# EAGLE library part 2SC3381 (library synthdiy)
Dual low noise NPN TRANSISTOR
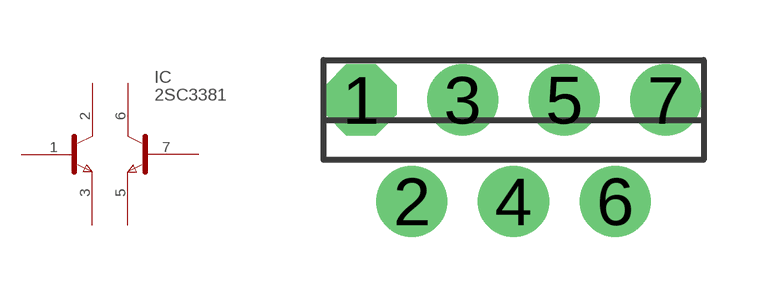
[diagram p9: symbol with the pads of XSIST_SIP7; footprint XSIST_SIP7]

Designator prefix IC

## 2SC3381  [XSIST_SIP7]
1  B1  pas
2  C1  pas
3  E1  pas
5  E2  pas
6  C2  pas
7  B2  pas

## Footprint XSIST_SIP7 (pad centres in mm)
Transistor SIP 7
drill 0.508 pad 1.778 octagon: 1 -3.81,0
drill 0.508 pad 1.778: 2 -2.54,-2.54; 3 -1.27,0; 4 0,-2.54; 5 1.27,0; 6 2.54,-2.54; 7 3.81,0